# EAGLE library part FE08-1 (library DSX_Library)
FEMALE HEADER
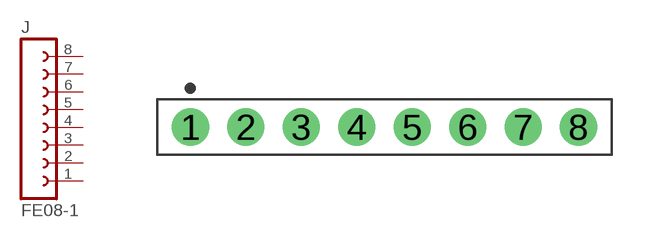
[diagram p4: symbol with the pads of HDRVR8W64P254_1X8_2082X254X850B; footprint HDRVR8W64P254_1X8_2082X254X850B]

Designator prefix J

## FE08-11X8-FEM-HEAD-3D  [HDRVR8W64P254_1X8_2082X254X850B]
1  1  pas
2  2  pas
3  3  pas
4  4  pas
5  5  pas
6  6  pas
7  7  pas
8  8  pas

## Footprint HDRVR8W64P254_1X8_2082X254X850B (pad centres in mm)
Single-row, 8-pin Receptacle Header (Female) Straight, 2.54 mm (0.10 in) col pitch, 8.50 mm insulator length, 20.82 X 2.54 X 8.50 mm body Single-row (1X8), 8-pin Receptacle Header (Female) Straight package with 2.54 mm (0.10 in) col pitch, 0.64 mm lead width, 3.00 mm tail length and 8.50 mm insulator length with overall size 20.82 X 2.54 X 8.50 mm, pin pattern - clockwise from top left
drill 1.105 pad 1.705: 1 0,0; 2 2.54,0; 3 5.08,0; 4 7.62,0; 5 10.16,0; 6 12.7,0; 7 15.24,0; 8 17.78,0